# EAGLE library part TOROID_24VA (library wheat)
XFMR, TOROIDAL, 24VA TALEMA PCB
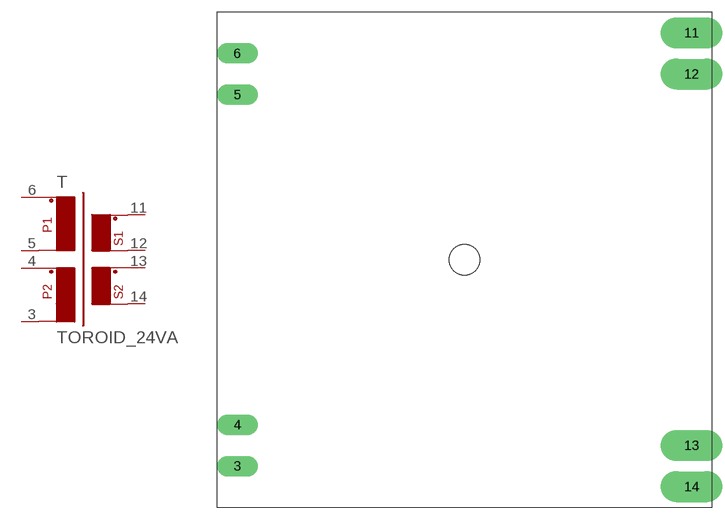
[diagram p16: symbol with the pads of TOROID_25VA; footprint TOROID_25VA]

Designator prefix T

## TOROID_24VA  [TOROID_25VA]
3  3  pas
4  4  pas
5  5  pas
6  6  pas
11  11  pas
12  12  pas
13  13  pas
14  14  pas

## Footprint TOROID_25VA (pad centres in mm)
XFMR, TOROID, TALEMA 24VA PCB
drill 1.422 pad 2.54 long: 3 -27.94,-25.4; 4 -27.94,-20.32; 5 -27.94,20.32; 6 -27.94,25.4
drill 1.422 pad 3.81 long: 11 27.94,27.94; 12 27.94,22.86; 13 27.94,-22.86; 14 27.94,-27.94
hole 3.81 at 0,0